# EAGLE library part DISC2 (library mike)
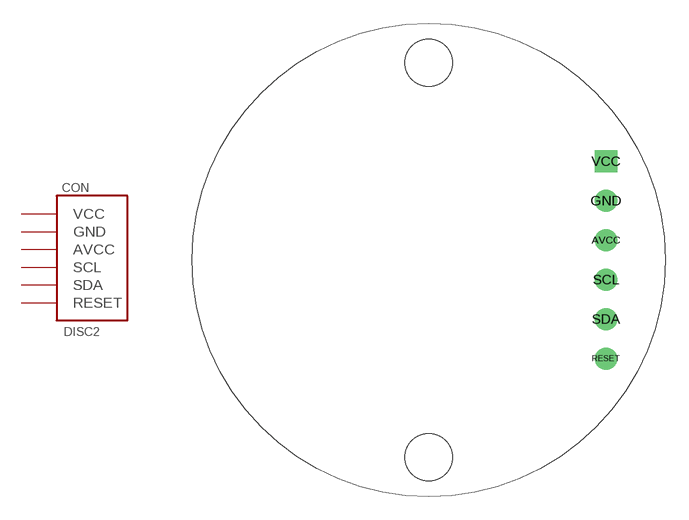
[diagram p10: symbol with the pads of DISC2; footprint DISC2]

Designator prefix CON

## DISC2  [DISC2]
AVCC  AVCC  pwr
GND  GND  pwr
RESET  RESET
SCL  SCL
SDA  SDA
VCC  VCC  pwr

## Footprint DISC2 (pad centres in mm)
drill 0.889 pad 1.422 round: AVCC 11.43,1.27; GND 11.43,3.81; RESET 11.43,-6.35; SCL 11.43,-1.27; SDA 11.43,-3.81
drill 0.889 pad 1.422 square: VCC 11.43,6.35
hole 3.048 at 0,-12.7
hole 3.048 at 0,12.7